# EAGLE library part IR2304 (library ir2304)
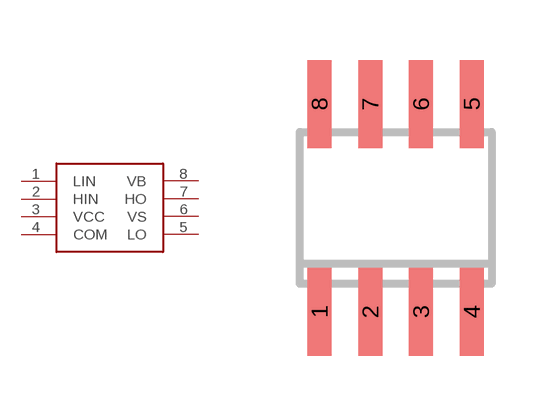
[diagram p0: symbol with the pads of SOIC8; footprint SOIC8]

Designator prefix -

## IR2304  [SOIC8]
1  LIN  in
2  HIN  in
3  VCC  pwr
4  COM  pwr
5  LO  out
6  VS
7  HO  out
8  VB

## Footprint SOIC8 (pad centres in mm)
Small Outline IC
smd 0.6 x 2.2: 1 -1.905,-2.6; 2 -0.635,-2.6; 3 0.635,-2.6; 4 1.905,-2.6; 5 1.905,2.6; 6 0.635,2.6; 7 -0.635,2.6; 8 -1.905,2.6